# EAGLE library part FT232H (library ftdichip-6)
FTDI FT232H High Speed USB 2.0 Slave Controller
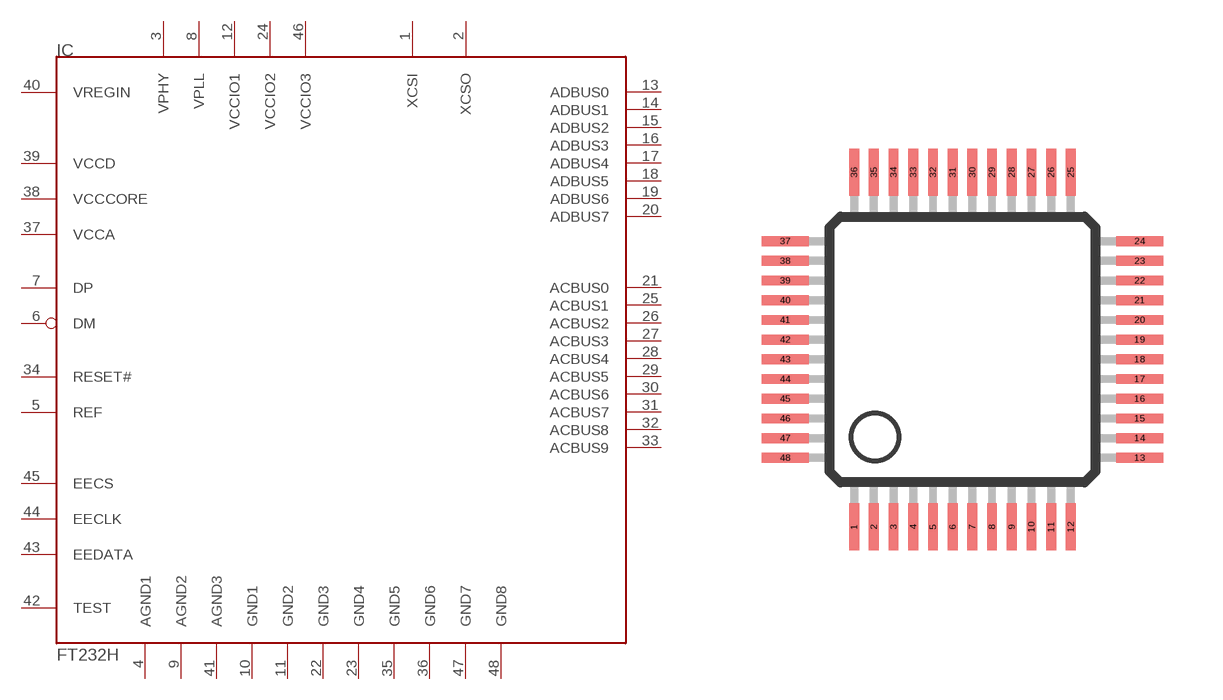
[diagram p12: symbol with the pads of LQFP48; footprint LQFP48]

Designator prefix IC

## FT232H  [LQFP48]
1  XCSI
2  XCSO
3  VPHY  pwr
4  AGND1  pwr
5  REF
6  DM
7  DP
8  VPLL  pwr
9  AGND2  pwr
10  GND1  pwr
11  GND2  pwr
12  VCCIO1  pwr
13  ADBUS0
14  ADBUS1
15  ADBUS2
16  ADBUS3
17  ADBUS4
18  ADBUS5
19  ADBUS6
20  ADBUS7
21  ACBUS0
22  GND3  pwr
23  GND4  pwr
24  VCCIO2  pwr
25  ACBUS1
26  ACBUS2
27  ACBUS3
28  ACBUS4
29  ACBUS5
30  ACBUS6
31  ACBUS7
32  ACBUS8
33  ACBUS9
34  RESET#
35  GND5  pwr
36  GND6  pwr
37  VCCA  pwr
38  VCCCORE  pwr
39  VCCD  pwr
40  VREGIN  pwr
41  AGND3  pwr
42  TEST
43  EEDATA
44  EECLK
45  EECS
46  VCCIO3  pwr
47  GND7  pwr
48  GND8  pwr

## Footprint LQFP48 (pad centres in mm)
LQFP-48 package 7x7 mm case, 0.5 mm lead pitch
smd 0.25 x 1.2: 1 -2.75,-4.5; 2 -2.25,-4.5; 3 -1.75,-4.5; 4 -1.25,-4.5; 5 -0.75,-4.5; 6 -0.25,-4.5; 7 0.25,-4.5; 8 0.75,-4.5; 9 1.25,-4.5; 10 1.75,-4.5; 11 2.25,-4.5; 12 2.75,-4.5; 25 2.75,4.5; 26 2.25,4.5; 27 1.75,4.5; 28 1.25,4.5; 29 0.75,4.5; 30 0.25,4.5; 31 -0.25,4.5; 32 -0.75,4.5; 33 -1.25,4.5; 34 -1.75,4.5; 35 -2.25,4.5; 36 -2.75,4.5
smd 1.2 x 0.25: 13 4.5,-2.75; 14 4.5,-2.25; 15 4.5,-1.75; 16 4.5,-1.25; 17 4.5,-0.75; 18 4.5,-0.25; 19 4.5,0.25; 20 4.5,0.75; 21 4.5,1.25; 22 4.5,1.75; 23 4.5,2.25; 24 4.5,2.75; 37 -4.5,2.75; 38 -4.5,2.25; 39 -4.5,1.75; 40 -4.5,1.25; 41 -4.5,0.75; 42 -4.5,0.25; 43 -4.5,-0.25; 44 -4.5,-0.75; 45 -4.5,-1.25; 46 -4.5,-1.75; 47 -4.5,-2.25; 48 -4.5,-2.75